# Altium footprint library QTBrightek.PcbLib: 1 footprints
Each footprint in its own frame and in the unit in brackets; x right, y up, seen from the top. Pads: shape width x height; smd on the part's side, far side on the other; paste and mask are expansions set on the pad; w line width, h text height; cw(c..) or ccw(c..) is an arc to the next point about the centre after c.
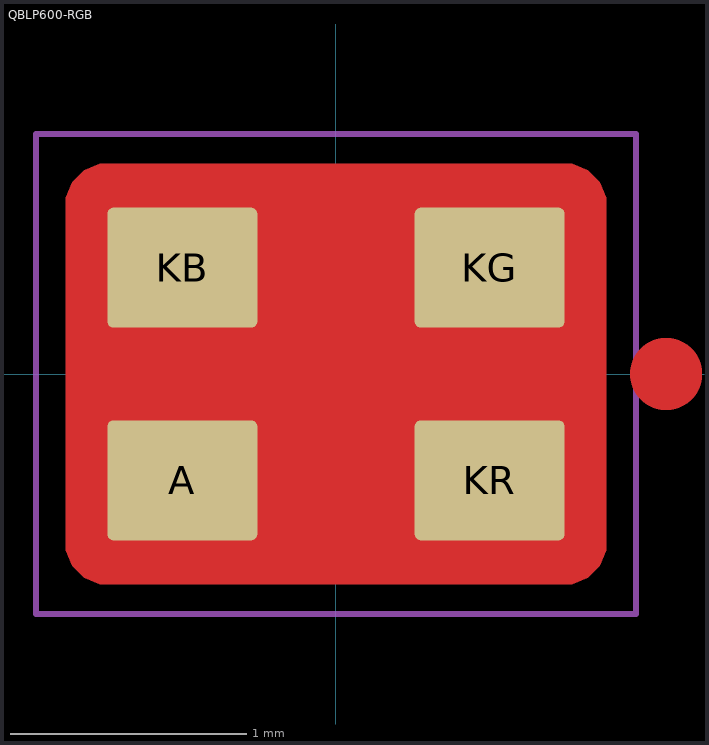
[diagram p0: the footprint, top view; thin cyan lines are the x and y axes]

## QBLP600-RGB [mm]
pads (4):
  rrect10% 0.635x0.508 smd mask+0.038: A(-0.65,-0.45) KB(-0.65,0.45) KG(0.65,0.45) KR(0.65,-0.45)
Top Layer:
  circle w0.254: c1.397,0 r0.025
  pour cut-out: -0.965,0.889 -1.001,0.889 -1.066,0.862 -1.116,0.812 -1.143,0.747 -1.143,0.711 -1.143,-0.711 -1.143,-0.747 -1.116,-0.812 -1.066,-0.862 -1.001,-0.889 -0.965,-0.889 0.965,-0.889 1.001,-0.889 1.066,-0.862 1.116,-0.812 1.143,-0.747 1.143,-0.711 1.143,0.711 1.143,0.747 1.116,0.812 1.066,0.862 1.001,0.889 0.965,0.889
Top Designator:
  text ".Designator" at -2.316,-0.227 h0.64
Top Courtyard:
  lines w0.025: -1.27,-1.016 -1.27,1.016 1.27,1.016 1.27,-1.016 -1.27,-1.016
Top Component Outline:
  lines w0.025: -0.8,-0.75 0.8,-0.75 0.8,0.75 -0.8,0.75 -0.8,-0.75
3D body "QBLP600_BI_TRI.step": height 0.8, standoff 0, extent -0.8,-0.75 0.8,0.75